# Altium integrated library TI_Logic_Flip-Flop,Latch,Register.IntLib: 2598 symbols (part 101 of 122)
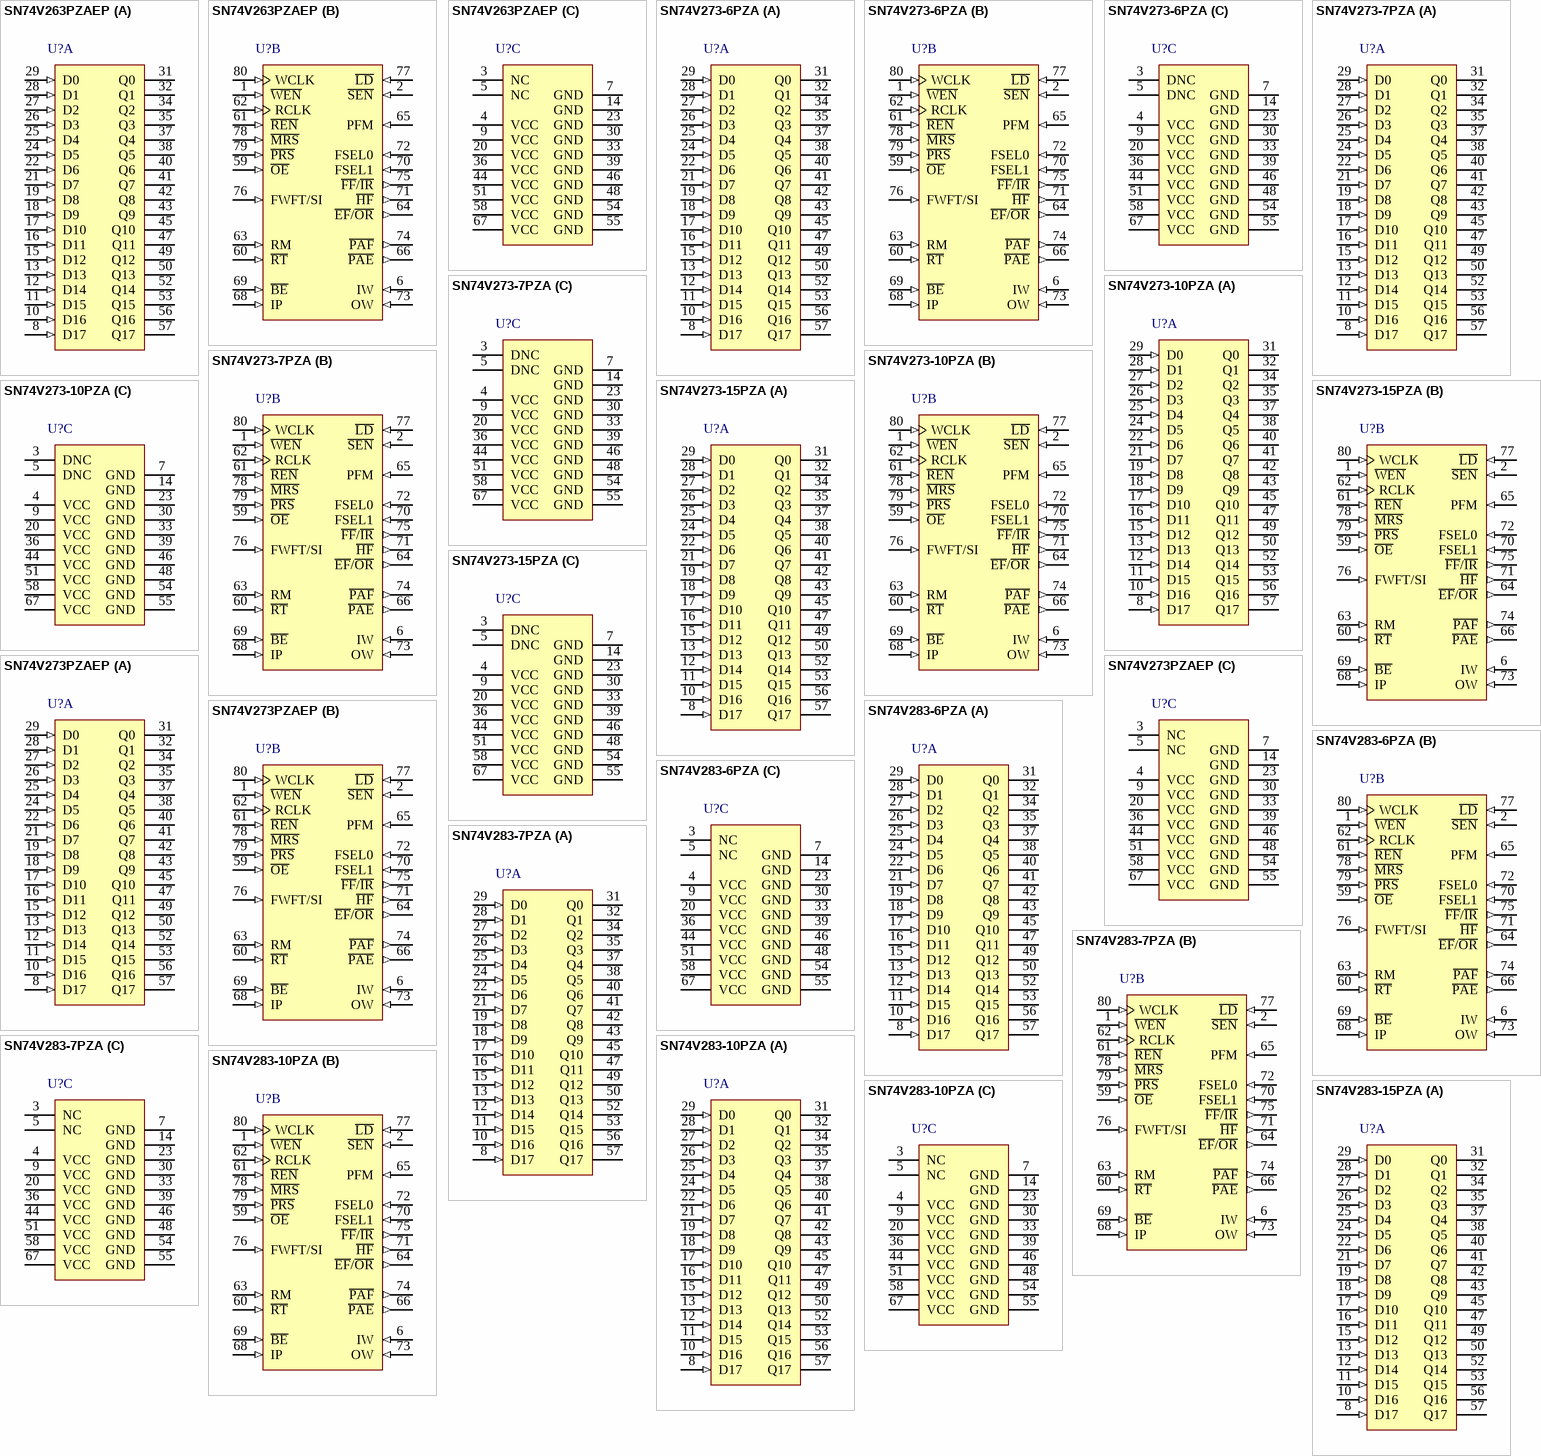
[diagram p239: symbols SN74V263PZAEP to SN74V283-15PZA]

## SN74V273-10PZA
designator U?
16384 x 18 Synchronous FIFO Memory, PZA0080A, JEDEC TRAY (5+1); Generic Part Number: SN74V273; Manufacturer: Texas Instruments; PartNumber: SN74V273-10PZA; Vcc range(V): 3.15 to 3.45; Fmax(MHz): 166; Voltage Nodes(V): 3.3; Sync/Async: S; Rating: Catalog; Output Drive(mA): -0.25; Flags Empty: 1; DatasheetVersion: SCAS669D; PackageReference: PZA0080A; Depth: 16384; Width: 18; Operating Temperature Range(C): 0 to 70; Flags Full: 1; Flags Half: 1; Code_JEDEC: MS-026; ComponentLink1Description: Manufacturer URL; ComponentLink1URL: http://www.ti.com/; ComponentLink2Description: Datasheet; ComponentLink2URL: http://www.ti.com/lit/ds/symlink/sn74v273.pdf; ComponentLink3Description: Package Specification; ComponentLink3URL: http://www.ti.com/lit/ml/mpqf099a/mpqf099a.pdf
footprint PZA0080A_N (QFP, 80-Leads, Body 14x14mm, Pitch 0.65mm, IPC Medium Density)
footprint PZA0080A_M (QFP, 80-Leads, Body 14x14mm, Pitch 0.65mm, IPC Low Density)
footprint PZA0080A_L (QFP, 80-Leads, Body 14x14mm, Pitch 0.65mm, IPC High Density)
part A pins: 8 D17 (in) "Data inputs. Data inputs for an 18- or 9-bit bus. When in 18-bit mode, D0-D17 are used. When in 9-bit mode, D0-D8 are used and the unused inputs (D9-D17) should be tied low.", 10 D16 (in) "Data inputs. Data inputs for an 18- or 9-bit bus. When in 18-bit mode, D0-D17 are used. When in 9-bit mode, D0-D8 are used and the unused inputs (D9-D17) should be tied low.", 11 D15 (in) "Data inputs. Data inputs for an 18- or 9-bit bus. When in 18-bit mode, D0-D17 are used. When in 9-bit mode, D0-D8 are used and the unused inputs (D9-D17) should be tied low.", 12 D14 (in) "Data inputs. Data inputs for an 18- or 9-bit bus. When in 18-bit mode, D0-D17 are used. When in 9-bit mode, D0-D8 are used and the unused inputs (D9-D17) should be tied low.", 13 D13 (in) "Data inputs. Data inputs for an 18- or 9-bit bus. When in 18-bit mode, D0-D17 are used. When in 9-bit mode, D0-D8 are used and the unused inputs (D9-D17) should be tied low.", 15 D12 (in) "Data inputs. Data inputs for an 18- or 9-bit bus. When in 18-bit mode, D0-D17 are used. When in 9-bit mode, D0-D8 are used and the unused inputs (D9-D17) should be tied low.", 16 D11 (in) "Data inputs. Data inputs for an 18- or 9-bit bus. When in 18-bit mode, D0-D17 are used. When in 9-bit mode, D0-D8 are used and the unused inputs (D9-D17) should be tied low.", 17 D10 (in) "Data inputs. Data inputs for an 18- or 9-bit bus. When in 18-bit mode, D0-D17 are used. When in 9-bit mode, D0-D8 are used and the unused inputs (D9-D17) should be tied low.", 18 D9 (in) "Data inputs. Data inputs for an 18- or 9-bit bus. When in 18-bit mode, D0-D17 are used. When in 9-bit mode, D0-D8 are used and the unused inputs (D9-D17) should be tied low.", 19 D8 (in) "Data inputs. Data inputs for an 18- or 9-bit bus. When in 18-bit mode, D0-D17 are used. When in 9-bit mode, D0-D8 are used and the unused inputs (D9-D17) should be tied low.", 21 D7 (in) "Data inputs. Data inputs for an 18- or 9-bit bus. When in 18-bit mode, D0-D17 are used. When in 9-bit mode, D0-D8 are used and the unused inputs (D9-D17) should be tied low.", 22 D6 (in) "Data inputs. Data inputs for an 18- or 9-bit bus. When in 18-bit mode, D0-D17 are used. When in 9-bit mode, D0-D8 are used and the unused inputs (D9-D17) should be tied low.", 24 D5 (in) "Data inputs. Data inputs for an 18- or 9-bit bus. When in 18-bit mode, D0-D17 are used. When in 9-bit mode, D0-D8 are used and the unused inputs (D9-D17) should be tied low.", 25 D4 (in) "Data inputs. Data inputs for an 18- or 9-bit bus. When in 18-bit mode, D0-D17 are used. When in 9-bit mode, D0-D8 are used and the unused inputs (D9-D17) should be tied low.", 26 D3 (in) "Data inputs. Data inputs for an 18- or 9-bit bus. When in 18-bit mode, D0-D17 are used. When in 9-bit mode, D0-D8 are used and the unused inputs (D9-D17) should be tied low.", 27 D2 (in) "Data inputs. Data inputs for an 18- or 9-bit bus. When in 18-bit mode, D0-D17 are used. When in 9-bit mode, D0-D8 are used and the unused inputs (D9-D17) should be tied low.", 28 D1 (in) "Data inputs. Data inputs for an 18- or 9-bit bus. When in 18-bit mode, D0-D17 are used. When in 9-bit mode, D0-D8 are used and the unused inputs (D9-D17) should be tied low.", 29 D0 (in) "Data inputs. Data inputs for an 18- or 9-bit bus. When in 18-bit mode, D0-D17 are used. When in 9-bit mode, D0-D8 are used and the unused inputs (D9-D17) should be tied low.", 31 Q0 (hiz) "Data outputs. Data outputs for a 18- or 9-bit bus. When in 18-bit mode, Q0-Q17 are used and when in 9-bit mode, Q0-Q8 are used, and the unused outputs, Q9-Q17 should not be connected. Outputs are not 5-V tolerant regardless (See Datasheet)", 32 Q1 (hiz) "Data outputs. Data outputs for a 18- or 9-bit bus. When in 18-bit mode, Q0-Q17 are used and when in 9-bit mode, Q0-Q8 are used, and the unused outputs, Q9-Q17 should not be connected. Outputs are not 5-V tolerant regardless (See Datasheet)", 34 Q2 (hiz) "Data outputs. Data outputs for a 18- or 9-bit bus. When in 18-bit mode, Q0-Q17 are used and when in 9-bit mode, Q0-Q8 are used, and the unused outputs, Q9-Q17 should not be connected. Outputs are not 5-V tolerant regardless (See Datasheet)", 35 Q3 (hiz) "Data outputs. Data outputs for a 18- or 9-bit bus. When in 18-bit mode, Q0-Q17 are used and when in 9-bit mode, Q0-Q8 are used, and the unused outputs, Q9-Q17 should not be connected. Outputs are not 5-V tolerant regardless (See Datasheet)", 37 Q4 (hiz) "Data outputs. Data outputs for a 18- or 9-bit bus. When in 18-bit mode, Q0-Q17 are used and when in 9-bit mode, Q0-Q8 are used, and the unused outputs, Q9-Q17 should not be connected. Outputs are not 5-V tolerant regardless (See Datasheet)", 38 Q5 (hiz) "Data outputs. Data outputs for a 18- or 9-bit bus. When in 18-bit mode, Q0-Q17 are used and when in 9-bit mode, Q0-Q8 are used, and the unused outputs, Q9-Q17 should not be connected. Outputs are not 5-V tolerant regardless (See Datasheet)", 40 Q6 (hiz) "Data outputs. Data outputs for a 18- or 9-bit bus. When in 18-bit mode, Q0-Q17 are used and when in 9-bit mode, Q0-Q8 are used, and the unused outputs, Q9-Q17 should not be connected. Outputs are not 5-V tolerant regardless (See Datasheet)", 41 Q7 (hiz) "Data outputs. Data outputs for a 18- or 9-bit bus. When in 18-bit mode, Q0-Q17 are used and when in 9-bit mode, Q0-Q8 are used, and the unused outputs, Q9-Q17 should not be connected. Outputs are not 5-V tolerant regardless (See Datasheet)", 42 Q8 (hiz) "Data outputs. Data outputs for a 18- or 9-bit bus. When in 18-bit mode, Q0-Q17 are used and when in 9-bit mode, Q0-Q8 are used, and the unused outputs, Q9-Q17 should not be connected. Outputs are not 5-V tolerant regardless (See Datasheet)", 43 Q9 (hiz) "Data outputs. Data outputs for a 18- or 9-bit bus. When in 18-bit mode, Q0-Q17 are used and when in 9-bit mode, Q0-Q8 are used, and the unused outputs, Q9-Q17 should not be connected. Outputs are not 5-V tolerant regardless (See Datasheet)", 45 Q10 (hiz) "Data outputs. Data outputs for a 18- or 9-bit bus. When in 18-bit mode, Q0-Q17 are used and when in 9-bit mode, Q0-Q8 are used, and the unused outputs, Q9-Q17 should not be connected. Outputs are not 5-V tolerant regardless (See Datasheet)", 47 Q11 (hiz) "Data outputs. Data outputs for a 18- or 9-bit bus. When in 18-bit mode, Q0-Q17 are used and when in 9-bit mode, Q0-Q8 are used, and the unused outputs, Q9-Q17 should not be connected. Outputs are not 5-V tolerant regardless (See Datasheet)", 49 Q12 (hiz) "Data outputs. Data outputs for a 18- or 9-bit bus. When in 18-bit mode, Q0-Q17 are used and when in 9-bit mode, Q0-Q8 are used, and the unused outputs, Q9-Q17 should not be connected. Outputs are not 5-V tolerant regardless (See Datasheet)", 50 Q13 (hiz) "Data outputs. Data outputs for a 18- or 9-bit bus. When in 18-bit mode, Q0-Q17 are used and when in 9-bit mode, Q0-Q8 are used, and the unused outputs, Q9-Q17 should not be connected. Outputs are not 5-V tolerant regardless (See Datasheet)", 52 Q14 (hiz) "Data outputs. Data outputs for a 18- or 9-bit bus. When in 18-bit mode, Q0-Q17 are used and when in 9-bit mode, Q0-Q8 are used, and the unused outputs, Q9-Q17 should not be connected. Outputs are not 5-V tolerant regardless (See Datasheet)", 53 Q15 (hiz) "Data outputs. Data outputs for a 18- or 9-bit bus. When in 18-bit mode, Q0-Q17 are used and when in 9-bit mode, Q0-Q8 are used, and the unused outputs, Q9-Q17 should not be connected. Outputs are not 5-V tolerant regardless (See Datasheet)", 56 Q16 (hiz) "Data outputs. Data outputs for a 18- or 9-bit bus. When in 18-bit mode, Q0-Q17 are used and when in 9-bit mode, Q0-Q8 are used, and the unused outputs, Q9-Q17 should not be connected. Outputs are not 5-V tolerant regardless (See Datasheet)", 57 Q17 (hiz) "Data outputs. Data outputs for a 18- or 9-bit bus. When in 18-bit mode, Q0-Q17 are used and when in 9-bit mode, Q0-Q8 are used, and the unused outputs, Q9-Q17 should not be connected. Outputs are not 5-V tolerant regardless (See Datasheet)"
part B pins: 1 ~{WEN} (in) "Write enable. W\E\N\ enables WCLK for writing data into the FIFO memory and offset registers.", 2 ~{SEN} (in) "Serial enable. S\E\N\ enables serial loading of programmable flag offsets.", 6 IW (in) "Input width. IW selects the bus width of the write port. During master reset, when IW is low, the write port is configured with a x18 bus width. If IW is high, the write port is a x9 bus width.", 59 ~{OE} (in) "Output enable. O\E\ controls the output impedance of Qn.", 60 ~{RT} (in) "Retransmit. R\T\ asserted on the rising edge of RCLK initializes the READ pointer to zero, sets the E\F\ flag to low (O\R\ to high in FWFT mode) and does not disturb the write pointer, programming method, existing timing (See Datasheet)", 61 ~{REN} (in) "Read enable. R\E\N\ enables RCLK for reading data from the FIFO memory and offset registers.", 62 RCLK (in) "Read clock. When enabled by R\E\N\, the rising edge of RCLK reads data from the FIFO memory and offsets from the programmable registers.", 63 RM (in) "Retransmit latency mode. During master reset, a low on RM selects zero-latency retransmit timing mode. A high on RM selects normal-latency mode.", 64 ~{EF}/~{OR} (out) "Empty flag/output ready. In FWFT mode, the O\R\ function is selected. O\R\ indicates whether there is valid data available at the outputs. In the standard mode, the E\F\ function is selected. E\F\ indicates whether the FIFO (See Datasheet)", 65 PFM (in) "Programmable-flag mode. During master reset, a low on PFM selects asynchronous programmable-flag timing mode. A high on PFM selects synchronous programmable-flag timing mode.", 66 ~{PAE} (out) "Programmable almost-empty flag. P\A\E\ goes low if the number of words in the FIFO memory is less than or equal to offset n, which is stored in the empty offset register. P\A\E\ goes high if the number of words in the FIFO (See Datasheet)", 68 IP (in) "Interspersed parity. During master reset, a low on IP selects noninterspersed-parity mode. A high on IP selects interspersed-parity mode.", 69 ~{BE} (in) "Big endian/little endian. During master reset, a low on B\E\ selects big-endian operation. A high on B\E\ during master reset selects little-endian format.", 70 FSEL1 (in) "Flag-select bit 1. During master reset, FSEL1, along with FSEL0 and L\D\, selects the default offset values for P\A\E\ and P\A\F\. Up to eight possible settings are available.", 71 ~{HF} (out) "Half-full flag. H\F\ indicates whether the FIFO memory is more or less than half full.", 72 FSEL0 (in) "Flag-select bit 0. During master reset, FSEL0, along with FSEL1 and L\D\, selects the default offset values for P\A\E\ and P\A\F\. Up to eight possible settings are available.", 73 OW (in) "Output width. OW selects the bus width of the read port. During master reset, when OW is low, the read port is configured with a x18 bus width. If OW is high, the read port is a x9 bus width.", 74 ~{PAF} (out) "Programmable almost-full flag. P\A\F\ goes high if the number of free locations in the FIFO memory is more than offset m, which is stored in the full offset register. P\A\F\ goes low if the number of free locations in the (See Datasheet)", 75 ~{FF}/~{IR} (out) "Full flag/input ready. In FWFT mode, the I\R\ function is selected. I\R\ indicates whether there is space available for writing to the FIFO memory. In standard mode, the F\F\ function is selected. F\F\ indicates whether the (See Datasheet)", 76 FWFT/SI (in) "First-word fall-through/serial in. During master reset, FWFT/SI selects FWFT or standard mode. After master reset, FWFT/SI functions as a serial input for loading offset registers.", 77 ~{LD} (in) "Load. This is a dual-purpose pin. During master reset, the state of the L\D\ input, along with FSEL0 and FSEL1, determines one of eight default offset values for the P\A\E\ and P\A\F\ flags, along with the method by which (See Datasheet)", 78 ~{MRS} (in) "Master reset. M\R\S\ initializes the read and write pointers to zero and sets the output register to all zeroes. During master reset, the FIFO is configured for either FWFT or standard mode, bus-matching configurations, one (See Datasheet)", 79 ~{PRS} (in) "Partial reset. P\R\S\ initializes the read and write pointers to zero and sets the output register to all zeroes. During partial reset, the existing mode (standard or FWFT), programming method (serial or parallel), and (See Datasheet)", 80 WCLK (in) "Write clock. When enabled by W\E\N\, the rising edge of WCLK writes data into the FIFO and offsets into the programmable registers for parallel programming and, when enabled by S\E\N\, the rising edge of WCLK writes one bit (See Datasheet)"
part C pins: 3 DNC "Do not connect", 4 VCC (power), 5 DNC "Do not connect", 7 GND (power), 9 VCC (power), 14 GND (power), 20 VCC (power), 23 GND (power), 30 GND (power), 33 GND (power), 36 VCC (power), 39 GND (power), 44 VCC (power), 46 GND (power), 48 GND (power), 51 VCC (power), 54 GND (power), 55 GND (power), 58 VCC (power), 67 VCC (power)

## SN74V273-15PZA
designator U?
16384 x 18 Synchronous FIFO Memory, PZA0080A, JEDEC TRAY (5+1); Generic Part Number: SN74V273; Manufacturer: Texas Instruments; PartNumber: SN74V273-15PZA; Vcc range(V): 3.15 to 3.45; Fmax(MHz): 166; Voltage Nodes(V): 3.3; Sync/Async: S; Rating: Catalog; Output Drive(mA): -0.25; Flags Empty: 1; DatasheetVersion: SCAS669D; PackageReference: PZA0080A; Depth: 16384; Width: 18; Operating Temperature Range(C): 0 to 70; Flags Full: 1; Flags Half: 1; Code_JEDEC: MS-026; ComponentLink1Description: Manufacturer URL; ComponentLink1URL: http://www.ti.com/; ComponentLink2Description: Datasheet; ComponentLink2URL: http://www.ti.com/lit/ds/symlink/sn74v273.pdf; ComponentLink3Description: Package Specification; ComponentLink3URL: http://www.ti.com/lit/ml/mpqf099a/mpqf099a.pdf
footprint PZA0080A_N (QFP, 80-Leads, Body 14x14mm, Pitch 0.65mm, IPC Medium Density)
footprint PZA0080A_M (QFP, 80-Leads, Body 14x14mm, Pitch 0.65mm, IPC Low Density)
footprint PZA0080A_L (QFP, 80-Leads, Body 14x14mm, Pitch 0.65mm, IPC High Density)
part A pins: 8 D17 (in) "Data inputs. Data inputs for an 18- or 9-bit bus. When in 18-bit mode, D0-D17 are used. When in 9-bit mode, D0-D8 are used and the unused inputs (D9-D17) should be tied low.", 10 D16 (in) "Data inputs. Data inputs for an 18- or 9-bit bus. When in 18-bit mode, D0-D17 are used. When in 9-bit mode, D0-D8 are used and the unused inputs (D9-D17) should be tied low.", 11 D15 (in) "Data inputs. Data inputs for an 18- or 9-bit bus. When in 18-bit mode, D0-D17 are used. When in 9-bit mode, D0-D8 are used and the unused inputs (D9-D17) should be tied low.", 12 D14 (in) "Data inputs. Data inputs for an 18- or 9-bit bus. When in 18-bit mode, D0-D17 are used. When in 9-bit mode, D0-D8 are used and the unused inputs (D9-D17) should be tied low.", 13 D13 (in) "Data inputs. Data inputs for an 18- or 9-bit bus. When in 18-bit mode, D0-D17 are used. When in 9-bit mode, D0-D8 are used and the unused inputs (D9-D17) should be tied low.", 15 D12 (in) "Data inputs. Data inputs for an 18- or 9-bit bus. When in 18-bit mode, D0-D17 are used. When in 9-bit mode, D0-D8 are used and the unused inputs (D9-D17) should be tied low.", 16 D11 (in) "Data inputs. Data inputs for an 18- or 9-bit bus. When in 18-bit mode, D0-D17 are used. When in 9-bit mode, D0-D8 are used and the unused inputs (D9-D17) should be tied low.", 17 D10 (in) "Data inputs. Data inputs for an 18- or 9-bit bus. When in 18-bit mode, D0-D17 are used. When in 9-bit mode, D0-D8 are used and the unused inputs (D9-D17) should be tied low.", 18 D9 (in) "Data inputs. Data inputs for an 18- or 9-bit bus. When in 18-bit mode, D0-D17 are used. When in 9-bit mode, D0-D8 are used and the unused inputs (D9-D17) should be tied low.", 19 D8 (in) "Data inputs. Data inputs for an 18- or 9-bit bus. When in 18-bit mode, D0-D17 are used. When in 9-bit mode, D0-D8 are used and the unused inputs (D9-D17) should be tied low.", 21 D7 (in) "Data inputs. Data inputs for an 18- or 9-bit bus. When in 18-bit mode, D0-D17 are used. When in 9-bit mode, D0-D8 are used and the unused inputs (D9-D17) should be tied low.", 22 D6 (in) "Data inputs. Data inputs for an 18- or 9-bit bus. When in 18-bit mode, D0-D17 are used. When in 9-bit mode, D0-D8 are used and the unused inputs (D9-D17) should be tied low.", 24 D5 (in) "Data inputs. Data inputs for an 18- or 9-bit bus. When in 18-bit mode, D0-D17 are used. When in 9-bit mode, D0-D8 are used and the unused inputs (D9-D17) should be tied low.", 25 D4 (in) "Data inputs. Data inputs for an 18- or 9-bit bus. When in 18-bit mode, D0-D17 are used. When in 9-bit mode, D0-D8 are used and the unused inputs (D9-D17) should be tied low.", 26 D3 (in) "Data inputs. Data inputs for an 18- or 9-bit bus. When in 18-bit mode, D0-D17 are used. When in 9-bit mode, D0-D8 are used and the unused inputs (D9-D17) should be tied low.", 27 D2 (in) "Data inputs. Data inputs for an 18- or 9-bit bus. When in 18-bit mode, D0-D17 are used. When in 9-bit mode, D0-D8 are used and the unused inputs (D9-D17) should be tied low.", 28 D1 (in) "Data inputs. Data inputs for an 18- or 9-bit bus. When in 18-bit mode, D0-D17 are used. When in 9-bit mode, D0-D8 are used and the unused inputs (D9-D17) should be tied low.", 29 D0 (in) "Data inputs. Data inputs for an 18- or 9-bit bus. When in 18-bit mode, D0-D17 are used. When in 9-bit mode, D0-D8 are used and the unused inputs (D9-D17) should be tied low.", 31 Q0 (hiz) "Data outputs. Data outputs for a 18- or 9-bit bus. When in 18-bit mode, Q0-Q17 are used and when in 9-bit mode, Q0-Q8 are used, and the unused outputs, Q9-Q17 should not be connected. Outputs are not 5-V tolerant regardless (See Datasheet)", 32 Q1 (hiz) "Data outputs. Data outputs for a 18- or 9-bit bus. When in 18-bit mode, Q0-Q17 are used and when in 9-bit mode, Q0-Q8 are used, and the unused outputs, Q9-Q17 should not be connected. Outputs are not 5-V tolerant regardless (See Datasheet)", 34 Q2 (hiz) "Data outputs. Data outputs for a 18- or 9-bit bus. When in 18-bit mode, Q0-Q17 are used and when in 9-bit mode, Q0-Q8 are used, and the unused outputs, Q9-Q17 should not be connected. Outputs are not 5-V tolerant regardless (See Datasheet)", 35 Q3 (hiz) "Data outputs. Data outputs for a 18- or 9-bit bus. When in 18-bit mode, Q0-Q17 are used and when in 9-bit mode, Q0-Q8 are used, and the unused outputs, Q9-Q17 should not be connected. Outputs are not 5-V tolerant regardless (See Datasheet)", 37 Q4 (hiz) "Data outputs. Data outputs for a 18- or 9-bit bus. When in 18-bit mode, Q0-Q17 are used and when in 9-bit mode, Q0-Q8 are used, and the unused outputs, Q9-Q17 should not be connected. Outputs are not 5-V tolerant regardless (See Datasheet)", 38 Q5 (hiz) "Data outputs. Data outputs for a 18- or 9-bit bus. When in 18-bit mode, Q0-Q17 are used and when in 9-bit mode, Q0-Q8 are used, and the unused outputs, Q9-Q17 should not be connected. Outputs are not 5-V tolerant regardless (See Datasheet)", 40 Q6 (hiz) "Data outputs. Data outputs for a 18- or 9-bit bus. When in 18-bit mode, Q0-Q17 are used and when in 9-bit mode, Q0-Q8 are used, and the unused outputs, Q9-Q17 should not be connected. Outputs are not 5-V tolerant regardless (See Datasheet)", 41 Q7 (hiz) "Data outputs. Data outputs for a 18- or 9-bit bus. When in 18-bit mode, Q0-Q17 are used and when in 9-bit mode, Q0-Q8 are used, and the unused outputs, Q9-Q17 should not be connected. Outputs are not 5-V tolerant regardless (See Datasheet)", 42 Q8 (hiz) "Data outputs. Data outputs for a 18- or 9-bit bus. When in 18-bit mode, Q0-Q17 are used and when in 9-bit mode, Q0-Q8 are used, and the unused outputs, Q9-Q17 should not be connected. Outputs are not 5-V tolerant regardless (See Datasheet)", 43 Q9 (hiz) "Data outputs. Data outputs for a 18- or 9-bit bus. When in 18-bit mode, Q0-Q17 are used and when in 9-bit mode, Q0-Q8 are used, and the unused outputs, Q9-Q17 should not be connected. Outputs are not 5-V tolerant regardless (See Datasheet)", 45 Q10 (hiz) "Data outputs. Data outputs for a 18- or 9-bit bus. When in 18-bit mode, Q0-Q17 are used and when in 9-bit mode, Q0-Q8 are used, and the unused outputs, Q9-Q17 should not be connected. Outputs are not 5-V tolerant regardless (See Datasheet)", 47 Q11 (hiz) "Data outputs. Data outputs for a 18- or 9-bit bus. When in 18-bit mode, Q0-Q17 are used and when in 9-bit mode, Q0-Q8 are used, and the unused outputs, Q9-Q17 should not be connected. Outputs are not 5-V tolerant regardless (See Datasheet)", 49 Q12 (hiz) "Data outputs. Data outputs for a 18- or 9-bit bus. When in 18-bit mode, Q0-Q17 are used and when in 9-bit mode, Q0-Q8 are used, and the unused outputs, Q9-Q17 should not be connected. Outputs are not 5-V tolerant regardless (See Datasheet)", 50 Q13 (hiz) "Data outputs. Data outputs for a 18- or 9-bit bus. When in 18-bit mode, Q0-Q17 are used and when in 9-bit mode, Q0-Q8 are used, and the unused outputs, Q9-Q17 should not be connected. Outputs are not 5-V tolerant regardless (See Datasheet)", 52 Q14 (hiz) "Data outputs. Data outputs for a 18- or 9-bit bus. When in 18-bit mode, Q0-Q17 are used and when in 9-bit mode, Q0-Q8 are used, and the unused outputs, Q9-Q17 should not be connected. Outputs are not 5-V tolerant regardless (See Datasheet)", 53 Q15 (hiz) "Data outputs. Data outputs for a 18- or 9-bit bus. When in 18-bit mode, Q0-Q17 are used and when in 9-bit mode, Q0-Q8 are used, and the unused outputs, Q9-Q17 should not be connected. Outputs are not 5-V tolerant regardless (See Datasheet)", 56 Q16 (hiz) "Data outputs. Data outputs for a 18- or 9-bit bus. When in 18-bit mode, Q0-Q17 are used and when in 9-bit mode, Q0-Q8 are used, and the unused outputs, Q9-Q17 should not be connected. Outputs are not 5-V tolerant regardless (See Datasheet)", 57 Q17 (hiz) "Data outputs. Data outputs for a 18- or 9-bit bus. When in 18-bit mode, Q0-Q17 are used and when in 9-bit mode, Q0-Q8 are used, and the unused outputs, Q9-Q17 should not be connected. Outputs are not 5-V tolerant regardless (See Datasheet)"
part B pins: 1 ~{WEN} (in) "Write enable. W\E\N\ enables WCLK for writing data into the FIFO memory and offset registers.", 2 ~{SEN} (in) "Serial enable. S\E\N\ enables serial loading of programmable flag offsets.", 6 IW (in) "Input width. IW selects the bus width of the write port. During master reset, when IW is low, the write port is configured with a x18 bus width. If IW is high, the write port is a x9 bus width.", 59 ~{OE} (in) "Output enable. O\E\ controls the output impedance of Qn.", 60 ~{RT} (in) "Retransmit. R\T\ asserted on the rising edge of RCLK initializes the READ pointer to zero, sets the E\F\ flag to low (O\R\ to high in FWFT mode) and does not disturb the write pointer, programming method, existing timing (See Datasheet)", 61 ~{REN} (in) "Read enable. R\E\N\ enables RCLK for reading data from the FIFO memory and offset registers.", 62 RCLK (in) "Read clock. When enabled by R\E\N\, the rising edge of RCLK reads data from the FIFO memory and offsets from the programmable registers.", 63 RM (in) "Retransmit latency mode. During master reset, a low on RM selects zero-latency retransmit timing mode. A high on RM selects normal-latency mode.", 64 ~{EF}/~{OR} (out) "Empty flag/output ready. In FWFT mode, the O\R\ function is selected. O\R\ indicates whether there is valid data available at the outputs. In the standard mode, the E\F\ function is selected. E\F\ indicates whether the FIFO (See Datasheet)", 65 PFM (in) "Programmable-flag mode. During master reset, a low on PFM selects asynchronous programmable-flag timing mode. A high on PFM selects synchronous programmable-flag timing mode.", 66 ~{PAE} (out) "Programmable almost-empty flag. P\A\E\ goes low if the number of words in the FIFO memory is less than or equal to offset n, which is stored in the empty offset register. P\A\E\ goes high if the number of words in the FIFO (See Datasheet)", 68 IP (in) "Interspersed parity. During master reset, a low on IP selects noninterspersed-parity mode. A high on IP selects interspersed-parity mode.", 69 ~{BE} (in) "Big endian/little endian. During master reset, a low on B\E\ selects big-endian operation. A high on B\E\ during master reset selects little-endian format.", 70 FSEL1 (in) "Flag-select bit 1. During master reset, FSEL1, along with FSEL0 and L\D\, selects the default offset values for P\A\E\ and P\A\F\. Up to eight possible settings are available.", 71 ~{HF} (out) "Half-full flag. H\F\ indicates whether the FIFO memory is more or less than half full.", 72 FSEL0 (in) "Flag-select bit 0. During master reset, FSEL0, along with FSEL1 and L\D\, selects the default offset values for P\A\E\ and P\A\F\. Up to eight possible settings are available.", 73 OW (in) "Output width. OW selects the bus width of the read port. During master reset, when OW is low, the read port is configured with a x18 bus width. If OW is high, the read port is a x9 bus width.", 74 ~{PAF} (out) "Programmable almost-full flag. P\A\F\ goes high if the number of free locations in the FIFO memory is more than offset m, which is stored in the full offset register. P\A\F\ goes low if the number of free locations in the (See Datasheet)", 75 ~{FF}/~{IR} (out) "Full flag/input ready. In FWFT mode, the I\R\ function is selected. I\R\ indicates whether there is space available for writing to the FIFO memory. In standard mode, the F\F\ function is selected. F\F\ indicates whether the (See Datasheet)", 76 FWFT/SI (in) "First-word fall-through/serial in. During master reset, FWFT/SI selects FWFT or standard mode. After master reset, FWFT/SI functions as a serial input for loading offset registers.", 77 ~{LD} (in) "Load. This is a dual-purpose pin. During master reset, the state of the L\D\ input, along with FSEL0 and FSEL1, determines one of eight default offset values for the P\A\E\ and P\A\F\ flags, along with the method by which (See Datasheet)", 78 ~{MRS} (in) "Master reset. M\R\S\ initializes the read and write pointers to zero and sets the output register to all zeroes. During master reset, the FIFO is configured for either FWFT or standard mode, bus-matching configurations, one (See Datasheet)", 79 ~{PRS} (in) "Partial reset. P\R\S\ initializes the read and write pointers to zero and sets the output register to all zeroes. During partial reset, the existing mode (standard or FWFT), programming method (serial or parallel), and (See Datasheet)", 80 WCLK (in) "Write clock. When enabled by W\E\N\, the rising edge of WCLK writes data into the FIFO and offsets into the programmable registers for parallel programming and, when enabled by S\E\N\, the rising edge of WCLK writes one bit (See Datasheet)"
part C pins: 3 DNC "Do not connect", 4 VCC (power), 5 DNC "Do not connect", 7 GND (power), 9 VCC (power), 14 GND (power), 20 VCC (power), 23 GND (power), 30 GND (power), 33 GND (power), 36 VCC (power), 39 GND (power), 44 VCC (power), 46 GND (power), 48 GND (power), 51 VCC (power), 54 GND (power), 55 GND (power), 58 VCC (power), 67 VCC (power)

## SN74V273PZAEP
designator U?
Enhanced Product 16384 X 18 Synchronous Fifo Memory, PZA0080A, JEDEC TRAY (5+1); Generic Part Number: SN74V273-EP; Manufacturer: Texas Instruments; PartNumber: SN74V273PZAEP; Vcc range(V): 3.15 to 3.45; Fmax(MHz): 133; Voltage Nodes(V): 3.3; Sync/Async: S; Rating: HiRel Enhanced Product; Output Drive(mA): -0.25; Flags Empty: 1; DatasheetVersion: SCAS695A; PackageReference: PZA0080A; Depth: 16384; Width: 18; Operating Temperature Range(C): -55 to 125; Flags Full: 1; Flags Half: 1; Code_JEDEC: MS-026; ComponentLink1Description: Manufacturer URL; ComponentLink1URL: http://www.ti.com/; ComponentLink2Description: Datasheet; ComponentLink2URL: http://www.ti.com/lit/ds/symlink/sn74v273-ep.pdf; ComponentLink3Description: Package Specification; ComponentLink3URL: http://www.ti.com/lit/ml/mpqf099a/mpqf099a.pdf
footprint PZA0080A_N (QFP, 80-Leads, Body 14x14mm, Pitch 0.65mm, IPC Medium Density)
footprint PZA0080A_M (QFP, 80-Leads, Body 14x14mm, Pitch 0.65mm, IPC Low Density)
footprint PZA0080A_L (QFP, 80-Leads, Body 14x14mm, Pitch 0.65mm, IPC High Density)
part A pins: 8 D17 (in) "Data inputs. Data inputs for an 18- or 9-bit bus. When in 18-bit mode, D0-D17 are used. When in 9-bit mode, D0-D8 are used and the unused inputs (D9-D17) should be tied low.", 10 D16 (in) "Data inputs. Data inputs for an 18- or 9-bit bus. When in 18-bit mode, D0-D17 are used. When in 9-bit mode, D0-D8 are used and the unused inputs (D9-D17) should be tied low.", 11 D15 (in) "Data inputs. Data inputs for an 18- or 9-bit bus. When in 18-bit mode, D0-D17 are used. When in 9-bit mode, D0-D8 are used and the unused inputs (D9-D17) should be tied low.", 12 D14 (in) "Data inputs. Data inputs for an 18- or 9-bit bus. When in 18-bit mode, D0-D17 are used. When in 9-bit mode, D0-D8 are used and the unused inputs (D9-D17) should be tied low.", 13 D13 (in) "Data inputs. Data inputs for an 18- or 9-bit bus. When in 18-bit mode, D0-D17 are used. When in 9-bit mode, D0-D8 are used and the unused inputs (D9-D17) should be tied low.", 15 D12 (in) "Data inputs. Data inputs for an 18- or 9-bit bus. When in 18-bit mode, D0-D17 are used. When in 9-bit mode, D0-D8 are used and the unused inputs (D9-D17) should be tied low.", 16 D11 (in) "Data inputs. Data inputs for an 18- or 9-bit bus. When in 18-bit mode, D0-D17 are used. When in 9-bit mode, D0-D8 are used and the unused inputs (D9-D17) should be tied low.", 17 D10 (in) "Data inputs. Data inputs for an 18- or 9-bit bus. When in 18-bit mode, D0-D17 are used. When in 9-bit mode, D0-D8 are used and the unused inputs (D9-D17) should be tied low.", 18 D9 (in) "Data inputs. Data inputs for an 18- or 9-bit bus. When in 18-bit mode, D0-D17 are used. When in 9-bit mode, D0-D8 are used and the unused inputs (D9-D17) should be tied low.", 19 D8 (in) "Data inputs. Data inputs for an 18- or 9-bit bus. When in 18-bit mode, D0-D17 are used. When in 9-bit mode, D0-D8 are used and the unused inputs (D9-D17) should be tied low.", 21 D7 (in) "Data inputs. Data inputs for an 18- or 9-bit bus. When in 18-bit mode, D0-D17 are used. When in 9-bit mode, D0-D8 are used and the unused inputs (D9-D17) should be tied low.", 22 D6 (in) "Data inputs. Data inputs for an 18- or 9-bit bus. When in 18-bit mode, D0-D17 are used. When in 9-bit mode, D0-D8 are used and the unused inputs (D9-D17) should be tied low.", 24 D5 (in) "Data inputs. Data inputs for an 18- or 9-bit bus. When in 18-bit mode, D0-D17 are used. When in 9-bit mode, D0-D8 are used and the unused inputs (D9-D17) should be tied low.", 25 D4 (in) "Data inputs. Data inputs for an 18- or 9-bit bus. When in 18-bit mode, D0-D17 are used. When in 9-bit mode, D0-D8 are used and the unused inputs (D9-D17) should be tied low.", 26 D3 (in) "Data inputs. Data inputs for an 18- or 9-bit bus. When in 18-bit mode, D0-D17 are used. When in 9-bit mode, D0-D8 are used and the unused inputs (D9-D17) should be tied low.", 27 D2 (in) "Data inputs. Data inputs for an 18- or 9-bit bus. When in 18-bit mode, D0-D17 are used. When in 9-bit mode, D0-D8 are used and the unused inputs (D9-D17) should be tied low.", 28 D1 (in) "Data inputs. Data inputs for an 18- or 9-bit bus. When in 18-bit mode, D0-D17 are used. When in 9-bit mode, D0-D8 are used and the unused inputs (D9-D17) should be tied low.", 29 D0 (in) "Data inputs. Data inputs for an 18- or 9-bit bus. When in 18-bit mode, D0-D17 are used. When in 9-bit mode, D0-D8 are used and the unused inputs (D9-D17) should be tied low.", 31 Q0 (hiz) "Data outputs. Data outputs for a 18- or 9-bit bus. When in 18-bit mode, Q0-Q17 are used and when in 9-bit mode, Q0-Q8 are used, and the unused outputs, Q9-Q17 should not be connected. Outputs are not 5-V tolerant regardless (See Datasheet)", 32 Q1 (hiz) "Data outputs. Data outputs for a 18- or 9-bit bus. When in 18-bit mode, Q0-Q17 are used and when in 9-bit mode, Q0-Q8 are used, and the unused outputs, Q9-Q17 should not be connected. Outputs are not 5-V tolerant regardless (See Datasheet)", 34 Q2 (hiz) "Data outputs. Data outputs for a 18- or 9-bit bus. When in 18-bit mode, Q0-Q17 are used and when in 9-bit mode, Q0-Q8 are used, and the unused outputs, Q9-Q17 should not be connected. Outputs are not 5-V tolerant regardless (See Datasheet)", 35 Q3 (hiz) "Data outputs. Data outputs for a 18- or 9-bit bus. When in 18-bit mode, Q0-Q17 are used and when in 9-bit mode, Q0-Q8 are used, and the unused outputs, Q9-Q17 should not be connected. Outputs are not 5-V tolerant regardless (See Datasheet)", 37 Q4 (hiz) "Data outputs. Data outputs for a 18- or 9-bit bus. When in 18-bit mode, Q0-Q17 are used and when in 9-bit mode, Q0-Q8 are used, and the unused outputs, Q9-Q17 should not be connected. Outputs are not 5-V tolerant regardless (See Datasheet)", 38 Q5 (hiz) "Data outputs. Data outputs for a 18- or 9-bit bus. When in 18-bit mode, Q0-Q17 are used and when in 9-bit mode, Q0-Q8 are used, and the unused outputs, Q9-Q17 should not be connected. Outputs are not 5-V tolerant regardless (See Datasheet)", 40 Q6 (hiz) "Data outputs. Data outputs for a 18- or 9-bit bus. When in 18-bit mode, Q0-Q17 are used and when in 9-bit mode, Q0-Q8 are used, and the unused outputs, Q9-Q17 should not be connected. Outputs are not 5-V tolerant regardless (See Datasheet)", 41 Q7 (hiz) "Data outputs. Data outputs for a 18- or 9-bit bus. When in 18-bit mode, Q0-Q17 are used and when in 9-bit mode, Q0-Q8 are used, and the unused outputs, Q9-Q17 should not be connected. Outputs are not 5-V tolerant regardless (See Datasheet)", 42 Q8 (hiz) "Data outputs. Data outputs for a 18- or 9-bit bus. When in 18-bit mode, Q0-Q17 are used and when in 9-bit mode, Q0-Q8 are used, and the unused outputs, Q9-Q17 should not be connected. Outputs are not 5-V tolerant regardless (See Datasheet)", 43 Q9 (hiz) "Data outputs. Data outputs for a 18- or 9-bit bus. When in 18-bit mode, Q0-Q17 are used and when in 9-bit mode, Q0-Q8 are used, and the unused outputs, Q9-Q17 should not be connected. Outputs are not 5-V tolerant regardless (See Datasheet)", 45 Q10 (hiz) "Data outputs. Data outputs for a 18- or 9-bit bus. When in 18-bit mode, Q0-Q17 are used and when in 9-bit mode, Q0-Q8 are used, and the unused outputs, Q9-Q17 should not be connected. Outputs are not 5-V tolerant regardless (See Datasheet)", 47 Q11 (hiz) "Data outputs. Data outputs for a 18- or 9-bit bus. When in 18-bit mode, Q0-Q17 are used and when in 9-bit mode, Q0-Q8 are used, and the unused outputs, Q9-Q17 should not be connected. Outputs are not 5-V tolerant regardless (See Datasheet)", 49 Q12 (hiz) "Data outputs. Data outputs for a 18- or 9-bit bus. When in 18-bit mode, Q0-Q17 are used and when in 9-bit mode, Q0-Q8 are used, and the unused outputs, Q9-Q17 should not be connected. Outputs are not 5-V tolerant regardless (See Datasheet)", 50 Q13 (hiz) "Data outputs. Data outputs for a 18- or 9-bit bus. When in 18-bit mode, Q0-Q17 are used and when in 9-bit mode, Q0-Q8 are used, and the unused outputs, Q9-Q17 should not be connected. Outputs are not 5-V tolerant regardless (See Datasheet)", 52 Q14 (hiz) "Data outputs. Data outputs for a 18- or 9-bit bus. When in 18-bit mode, Q0-Q17 are used and when in 9-bit mode, Q0-Q8 are used, and the unused outputs, Q9-Q17 should not be connected. Outputs are not 5-V tolerant regardless (See Datasheet)", 53 Q15 (hiz) "Data outputs. Data outputs for a 18- or 9-bit bus. When in 18-bit mode, Q0-Q17 are used and when in 9-bit mode, Q0-Q8 are used, and the unused outputs, Q9-Q17 should not be connected. Outputs are not 5-V tolerant regardless (See Datasheet)", 56 Q16 (hiz) "Data outputs. Data outputs for a 18- or 9-bit bus. When in 18-bit mode, Q0-Q17 are used and when in 9-bit mode, Q0-Q8 are used, and the unused outputs, Q9-Q17 should not be connected. Outputs are not 5-V tolerant regardless (See Datasheet)", 57 Q17 (hiz) "Data outputs. Data outputs for a 18- or 9-bit bus. When in 18-bit mode, Q0-Q17 are used and when in 9-bit mode, Q0-Q8 are used, and the unused outputs, Q9-Q17 should not be connected. Outputs are not 5-V tolerant regardless (See Datasheet)"
part B pins: 1 ~{WEN} (in) "Write enable. W\E\N\ enables WCLK for writing data into the FIFO memory and offset registers.", 2 ~{SEN} (in) "Serial enable. S\E\N\ enables serial loading of programmable flag offsets.", 6 IW (in) "Input width. IW selects the bus width of the write port. During master reset, when IW is low, the write port is configured with a x18 bus width. If IW is high, the write port is a x9 bus width.", 59 ~{OE} (in) "Output enable. O\E\ controls the output impedance of Qn.", 60 ~{RT} (in) "Retransmit. R\T\ asserted on the rising edge of RCLK initializes the READ pointer to zero, sets the E\F\ flag to low (O\R\ to high in FWFT mode) and does not disturb the write pointer, programming method, existing timing (See Datasheet)", 61 ~{REN} (in) "Read enable. R\E\N\ enables RCLK for reading data from the FIFO memory and offset registers.", 62 RCLK (in) "Read clock. When enabled by R\E\N\, the rising edge of RCLK reads data from the FIFO memory and offsets from the programmable registers.", 63 RM (in) "Retransmit latency mode. During master reset, a low on RM selects zero-latency retransmit timing mode. A high on RM selects normal-latency mode.", 64 ~{EF}/~{OR} (out) "Empty flag/output ready. In FWFT mode, the O\R\ function is selected. O\R\ indicates whether there is valid data available at the outputs. In the standard mode, the E\F\ function is selected. E\F\ indicates whether the FIFO (See Datasheet)", 65 PFM (in) "Programmable-flag mode. During master reset, a low on PFM selects asynchronous programmable-flag timing mode. A high on PFM selects synchronous programmable-flag timing mode.", 66 ~{PAE} (out) "Programmable almost-empty flag. P\A\E\ goes low if the number of words in the FIFO memory is less than or equal to offset n, which is stored in the empty offset register. P\A\E\ goes high if the number of words in the FIFO (See Datasheet)", 68 IP (in) "Interspersed parity. During master reset, a low on IP selects noninterspersed-parity mode. A high on IP selects interspersed-parity mode.", 69 ~{BE} (in) "Big endian/little endian. During master reset, a low on B\E\ selects big-endian operation. A high on B\E\ during master reset selects little-endian format.", 70 FSEL1 (in) "Flag-select bit 1. During master reset, FSEL1, along with FSEL0 and L\D\, selects the default offset values for P\A\E\ and P\A\F\. Up to eight possible settings are available.", 71 ~{HF} (out) "Half-full flag. H\F\ indicates whether the FIFO memory is more or less than half full.", 72 FSEL0 (in) "Flag-select bit 0. During master reset, FSEL0, along with FSEL1 and L\D\, selects the default offset values for P\A\E\ and P\A\F\. Up to eight possible settings are available.", 73 OW (in) "Output width. OW selects the bus width of the read port. During master reset, when OW is low, the read port is configured with a x18 bus width. If OW is high, the read port is a x9 bus width.", 74 ~{PAF} (out) "Programmable almost-full flag. P\A\F\ goes high if the number of free locations in the FIFO memory is more than offset m, which is stored in the full offset register. P\A\F\ goes low if the number of free locations in the (See Datasheet)", 75 ~{FF}/~{IR} (out) "Full flag/input ready. In FWFT mode, the I\R\ function is selected. I\R\ indicates whether there is space available for writing to the FIFO memory. In standard mode, the F\F\ function is selected. F\F\ indicates whether the (See Datasheet)", 76 FWFT/SI (in) "First-word fall-through/serial in. During master reset, FWFT/SI selects FWFT or standard mode. After master reset, FWFT/SI functions as a serial input for loading offset registers.", 77 ~{LD} (in) "Load. This is a dual-purpose pin. During master reset, the state of the L\D\ input, along with FSEL0 and FSEL1, determines one of eight default offset values for the P\A\E\ and P\A\F\ flags, along with the method by which (See Datasheet)", 78 ~{MRS} (in) "Master reset. M\R\S\ initializes the read and write pointers to zero and sets the output register to all zeroes. During master reset, the FIFO is configured for either FWFT or standard mode, bus-matching configurations, one (See Datasheet)", 79 ~{PRS} (in) "Partial reset. P\R\S\ initializes the read and write pointers to zero and sets the output register to all zeroes. During partial reset, the existing mode (standard or FWFT), programming method (serial or parallel), and (See Datasheet)", 80 WCLK (in) "Write clock. When enabled by W\E\N\, the rising edge of WCLK writes data into the FIFO and offsets into the programmable registers for parallel programming and, when enabled by S\E\N\, the rising edge of WCLK writes one bit (See Datasheet)"
part C pins: 3 NC, 4 VCC (power), 5 NC, 7 GND (power), 9 VCC (power), 14 GND (power), 20 VCC (power), 23 GND (power), 30 GND (power), 33 GND (power), 36 VCC (power), 39 GND (power), 44 VCC (power), 46 GND (power), 48 GND (power), 51 VCC (power), 54 GND (power), 55 GND (power), 58 VCC (power), 67 VCC (power)